# Altium schematic symbol library Bridge3.Schlib: 1 symbol
Pins are listed as number, name and electrical type; pins without a type are passive.

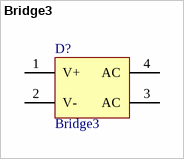
[diagram p0: symbol Bridge3]

## Bridge3
designator D?
Diode Bridge
pins: 1 V+, 2 V-, 3 AC, 4 AC